# EAGLE library part ADG1221 (library analog-devices)
CMOS Dual SPST Switch
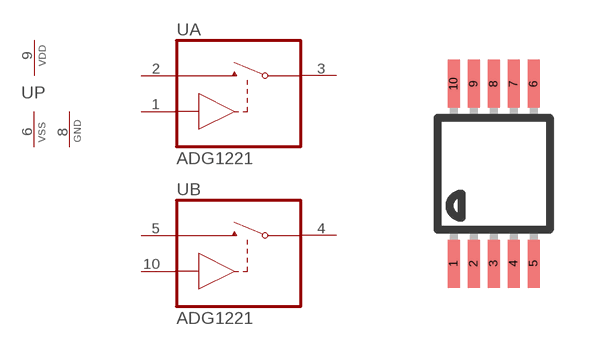
[diagram p84: symbol with the pads of MSOP10; footprint MSOP10]

Designator prefix U; gates A=ADG1221 B=ADG1221 P=PWRN_VDDVSSGND

## ADG1221M  [MSOP10]
1  A:IN  in
2  A:S1  pas
3  A:D  pas
4  B:D  pas
5  B:S1  pas
6  P:VSS  pwr
8  P:GND  pwr
9  P:VDD  pwr
10  B:IN  in

## Footprint MSOP10 (pad centres in mm)
MSOP-10
smd 0.3 x 1.2: 1 -1,-2.25; 2 -0.5,-2.25; 3 0,-2.25; 4 0.5,-2.25; 5 1,-2.25; 6 1,2.25; 7 0.5,2.25; 8 0,2.25; 9 -0.5,2.25; 10 -1,2.25